# Altium footprint library web.skorpio.PcbLib: 30 footprints (part 2 of 2)
Each footprint in its own frame and in the unit in brackets; x right, y up, seen from the top. Pads: shape width x height; smd on the part's side, far side on the other; paste and mask are expansions set on the pad; w line width, h text height; cw(c..) or ccw(c..) is an arc to the next point about the centre after c.
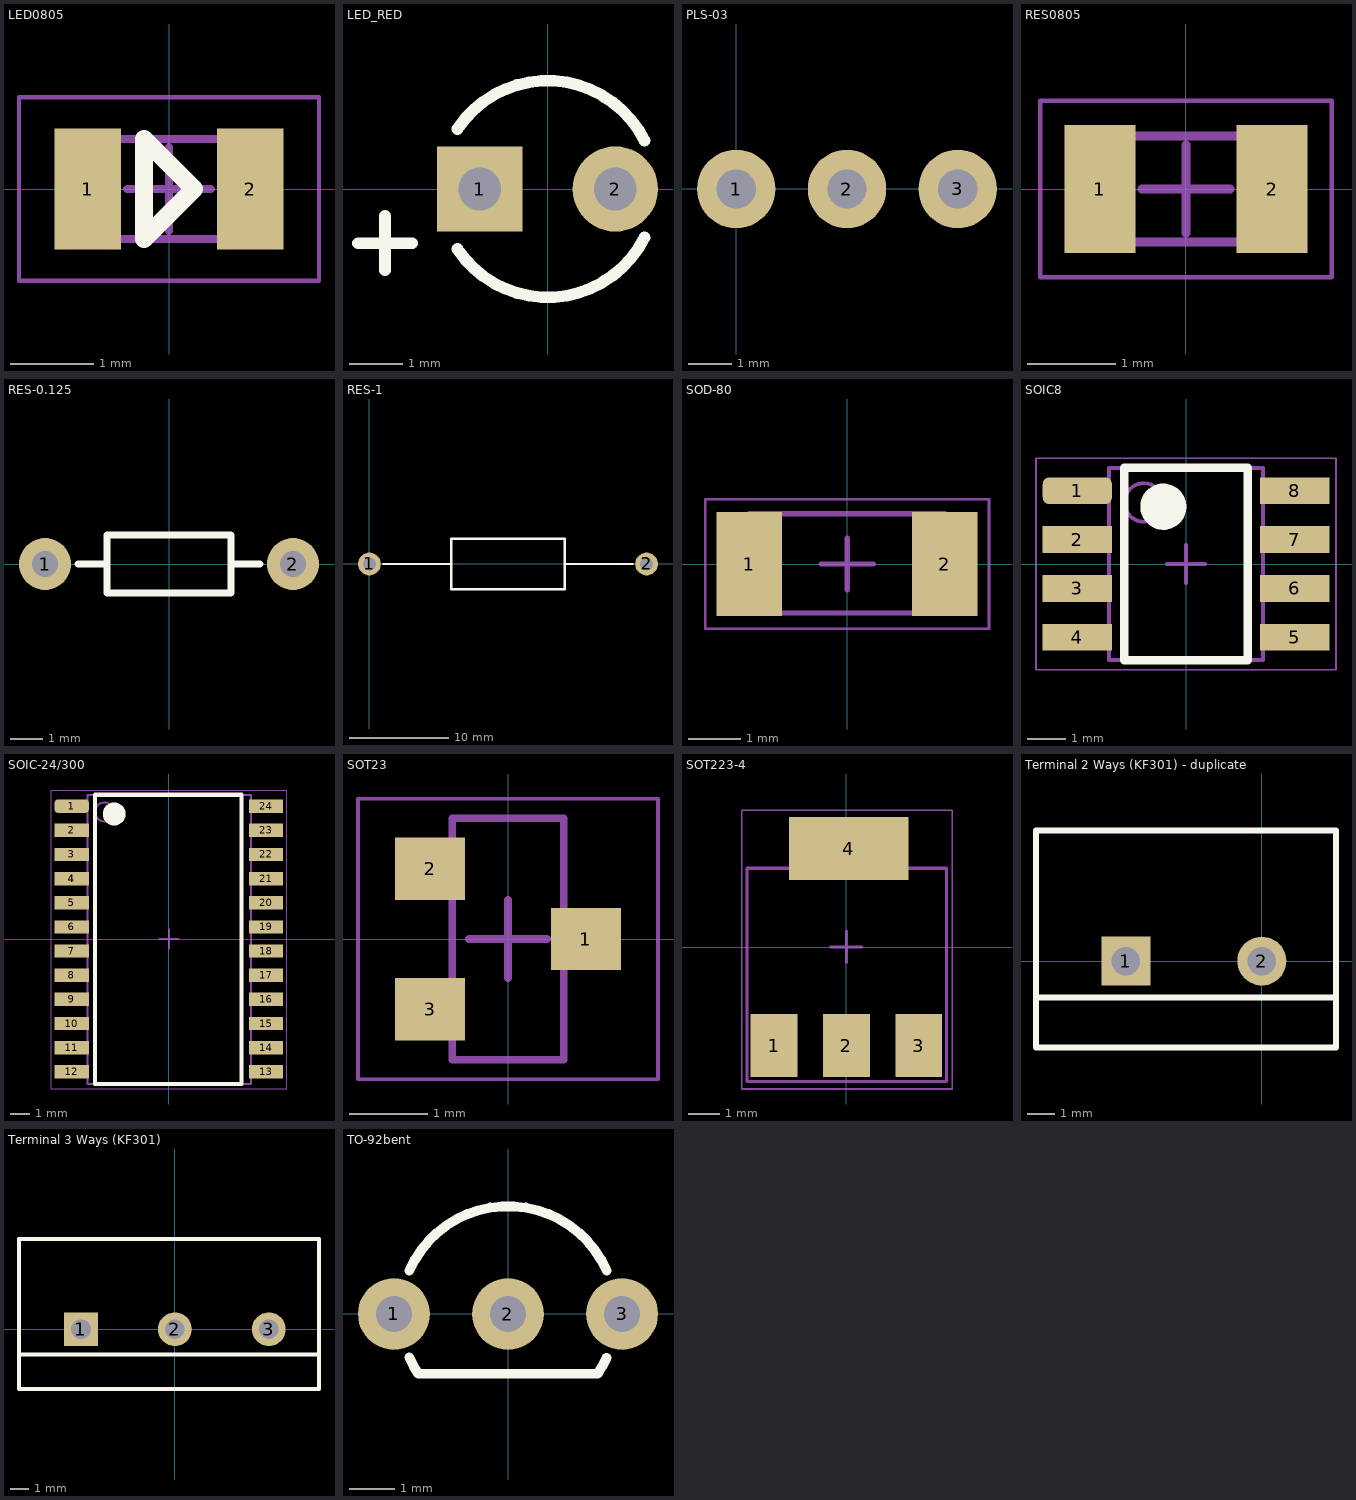
[diagram p1: the footprints below, top view; thin cyan lines are the x and y axes]

## LED0805 [mm] "LED, 2-Leads, Body 2,00x1,20mm, IPC Medium Density"
height 0.4
pads (2):
  rect 0.8x1.45 smd: 1(-0.975,0) 2(0.975,0)
Top Overlay:
  lines w0.22: -0.3,-0.6 -0.3,0.6 0.3,0 -0.3,-0.6
Mechanical 13:
  lines w0.1: -1,-0.6 -1,0.6 1,0.6 1,-0.6 -1,-0.6
Mechanical 15:
  lines w0.05: -1.8,-1.1 -1.8,1.1 1.8,1.1 1.8,-1.1 -1.8,-1.1
  lines w0.1: -0.5,0 0.5,0 ; 0,-0.5 0,0.5
3D body: height 0.6, standoff 0, extent -0.6,-0.6 0.6,0.6
3D body: height 0.4, standoff 0, extent -1,-0.6 -0.6,0.6
3D body: height 0.4, standoff 0, extent 0.6,-0.6 1,0.6

## LED_RED [mm]
pads (2):
  rect 1.6x1.6 hole 0.8: 1(-1.27,0)
  round 1.6 hole 0.8: 2(1.27,0)
Top Overlay:
  lines w0.22: -3.556,-1.016 -2.54,-1.016 ; -3.048,-1.524 -3.048,-0.508 ; -1.691,-1.127 ccw(c0,0) 1.817,-0.909 ; -1.691,1.127 cw(c0,0) 1.817,0.909
3D body "CircuitWorks-REDLED.step": height 5.68, standoff -2.88, extent -1.994,-1.524 1.994,1.968

## PLS-03 [mm]
pads (3):
  round 1.8 hole 0.9: 1(0,0) 2(2.54,0) 3(5.08,0)
3D body: height 1.5, standoff 0, extent 3.81,-1.27 6.35,1.27
3D body: height 1.5, standoff 0, extent 1.27,-1.27 3.81,1.27
3D body: height 1.5, standoff 0, extent -1.27,-1.27 1.27,1.27
3D body: height 8.5, standoff 0, extent 4.699,-0.381 5.461,0.381
3D body: height 8.5, standoff 0, extent 2.159,-0.381 2.921,0.381
3D body: height 8.5, standoff 0, extent -0.381,-0.381 0.381,0.381

## RES0805 [mm] "Chip Resistor, 2-Leads, Body 2,00x1,20mm, IPC Medium Density"
height 0.4
pads (2):
  rect 0.8x1.45 smd: 1(-0.975,0) 2(0.975,0)
Mechanical 13:
  lines w0.1: -1,-0.6 -1,0.6 1,0.6 1,-0.6 -1,-0.6
Mechanical 15:
  lines w0.05: -1.65,-1 -1.65,1 1.65,1 1.65,-1 -1.65,-1
  lines w0.1: -0.5,0 0.5,0 ; 0,-0.5 0,0.5
3D body: height 0.4, standoff 0, extent -0.6,-0.6 0.6,0.6
3D body: height 0.4, standoff 0, extent -1,-0.6 -0.6,0.6
3D body: height 0.4, standoff 0, extent 0.6,-0.6 1,0.6

## RES-0.125 [mm]
pads (2):
  round 1.6 hole 0.8: 1(-3.81,0) 2(3.81,0)
Top Overlay:
  lines w0.22: -2.794,0 -1.905,0 ; 1.905,0 2.794,0 ; -1.905,-0.889 1.905,-0.889 1.905,0.889 -1.905,0.889 -1.905,-0.889
3D body "CircuitWorks-RESISTOR 7_62MM DIP.step": height 2.3, standoff -1.7, extent -4.05,-1 4.05,1

## RES-1 [mm]
pads (2):
  round 2.3 hole 1.3: 1(0,0) 2(27.94,0)
Top Overlay:
  lines w0.22: 1.397,0 3.175,0 8.255,0 ; 19.685,0 26.543,0 ; 8.255,-2.54 8.255,-1.905 8.255,1.905 8.255,2.54 19.685,2.54 19.685,1.905 19.685,-1.905 19.685,-2.54 19.05,-2.54 8.255,-2.54
3D body "User Library-Res110 1W SilCoat.step": height 4.52, standoff -2, extent -0.381,-2.25 28.309,2.25

## SOD-80 [mm]
pads (2):
  rect 1.25x2 smd: 1(-1.875,0) 2(1.875,0)
Mechanical 13:
  lines w0.1: -1.875,-0.94 -1.875,0.965 1.875,0.965 1.875,-0.94 -1.875,-0.94
Mechanical 15:
  lines w0.05: -2.713,-1.245 -2.713,1.245 2.722,1.245 2.722,-1.245 -2.713,-1.245
  lines w0.1: -0.495,0 0.505,0 ; 0.005,-0.5 0.005,0.5
3D body "User Library-SOD-80.STEP": height 1.5, standoff 0, extent -1.755,-0.755 1.704,0.755

## SOIC8 [mm] "SOIC, 8-Leads, Body 4,90x3,90mm, Pitch 1,27mm, IPC Medium Density"
height 1.75
pads (8):
  rrect50% 1.8x0.7 smd: 1(-2.825,1.905)
  rect 1.8x0.7 smd: 2(-2.825,0.635) 3(-2.825,-0.635) 4(-2.825,-1.905) 5(2.825,-1.905) 6(2.825,-0.635) 7(2.825,0.635) 8(2.825,1.905)
Top Overlay:
  circle w0.6: c-0.59,1.49 r0.3
  lines w0.22: -1.6,-2.5 1.6,-2.5 1.6,2.5 -1.6,2.5 -1.6,-2.5
Mechanical 13:
  circle w0.1: c-1.1,1.6 r0.5
  lines w0.1: -2,-2.5 2,-2.5 2,2.5 -2,2.5 -2,-2.5
Mechanical 15:
  lines w0.05: -3.9,-2.75 3.9,-2.75 3.9,2.75 -3.9,2.75 -3.9,-2.75
  lines w0.1: -0.5,0 0.5,0 ; 0,-0.5 0,0.5
3D body "SOIC8.step": height 1.75, standoff 0, extent -3,-2.5 3,2.5

## SOIC-24/300 [mm] "SOIC, 24-Leads, Pitch 1,27mm"
height 1.75
pads (25):
  rrect50% 1.8x0.7 smd: 1(-5.111,6.985)
  rect 1.8x0.7 smd: 2(-5.111,5.715) 3(-5.111,4.445) 4(-5.111,3.175) 4(-5.111,3.175) 5(-5.111,1.905) 6(-5.111,0.635) 7(-5.111,-0.635) 8(-5.111,-1.905) 9(-5.111,-3.175) 10(-5.111,-4.445) 11(-5.111,-5.715) 12(-5.111,-6.985) 13(5.111,-6.985) 14(5.111,-5.715) 15(5.111,-4.445) 16(5.111,-3.175) 17(5.111,-1.905) 18(5.111,-0.635) 19(5.111,0.635) 20(5.111,1.905) 21(5.111,3.175) 22(5.111,4.445) 23(5.111,5.715) 24(5.111,6.985)
Top Overlay:
  circle w0.6: c-2.876,6.57 r0.3
  lines w0.22: -3.886,-7.62 -3.886,7.58 3.81,7.58 3.81,-7.62 -3.886,-7.62
Mechanical 13:
  circle w0.1: c-3.386,6.68 r0.5
  lines w0.1: -4.286,-7.62 -4.286,7.58 4.318,7.58 4.318,-7.62 -4.286,-7.62
Mechanical 15:
  lines w0.05: -6.186,-7.874 -6.186,7.83 6.198,7.83 6.198,-7.874 -6.186,-7.874
  lines w0.1: -0.5,0 0.5,0 ; 0,-0.5 0,0.5
3D body "User Library-SOIC_24-300.STEP": height 2.6, standoff 0, extent -5.156,-7.831 5.244,7.569

## SOT23 [mm]
height 1.15
pads (3):
  rect 0.9x0.8 smd: 1(1,0) 2(-1,0.9) 3(-1,-0.9)
Mechanical 13:
  lines w0.1: -0.715,-1.55 0.715,-1.55 0.715,1.55 -0.715,1.55 -0.715,-1.55
Mechanical 15:
  lines w0.05: -1.925,-1.8 1.925,-1.8 1.925,1.8 -1.925,1.8 -1.925,-1.8
  lines w0.1: -0.5,0 0.5,0 ; 0,-0.5 0,0.5
3D body "SOT23127P600-8N.step": height 1.15, standoff 0, extent -1.3,-1.55 1.3,1.55

## SOT223-4 [mil]
pads (4):
  rect 59x79 smd: 1(-91,-124) 2(0,-124) 3(91,-124)
  rect 150x79 smd: 4(3,124)
Mechanical 13:
  lines w3.94: -125.15,-169 126,-169 126,99.24 -125.15,99.24 -125.15,-169
Mechanical 15:
  lines w1.97: 133.21,-152.57 133.21,172 -131.79,172 -131.79,-178.65 133.21,-178.65 133.21,-152.57 ; 133.21,-152.57 133.21,-152.57
  lines w3.94: -19.69,0.22 19.68,0.22 ; 0,-19.47 0,19.9
3D body "User Library-sot-223.STEP": height 63.97, standoff -1.97, extent -126.9,-136.46 129,136.46

## Terminal 2 Ways (KF301) - duplicate [mm]
pads (2):
  rect 1.8x1.8 hole 1.05: 1(-5.002,0)
  round 1.8 hole 1.05: 2(-0.002,0)
Top Overlay:
  lines w0.22: -8.275,-1.346 2.7,-1.346 ; -8.302,-3.175 -8.302,4.8 2.725,4.8 2.725,-3.175 -8.302,-3.175
3D body "User Library-Terminal-Screw-3A-2way.STEP": height 10.1, standoff -2.9, extent -8.1,-3 2.5,4.6

## Terminal 3 Ways (KF301) [mm]
pads (3):
  rect 1.8x1.8 hole 1.05: 1(-5.002,0)
  round 1.8 hole 1.05: 2(-0.002,0) 3(5.002,0)
Top Overlay:
  lines w0.22: -8.275,-1.346 7.648,-1.346 ; -8.302,-3.175 7.673,-3.175 7.673,4.8 -8.302,4.8 -8.302,-3.175
3D body "User Library-Terminal-Screw-3A-3way.STEP": height 10.1, standoff -2.9, extent -8.1,-3 7.5,4.6

## TO-92bent [mm]
pads (3):
  round 1.6 hole 0.8: 1(-2.54,0) 2(0,0) 3(2.54,0)
Top Overlay:
  lines w0.22: -2.199,-0.962 ccw(c0,0) -1.997,-1.331 1.997,-1.331 ccw(c0,0) 2.193,-0.975 ; -2.199,0.962 cw(c0,0) 2.199,0.962
3D body "User Library-TO-92_Bent.STEP": height 11, standoff -2, extent -2.79,-1.59 2.79,2.613